# Altium integrated library FAN7688.IntLib: 19 symbols
Pins are listed as number, name and electrical type; pins without a type are passive.

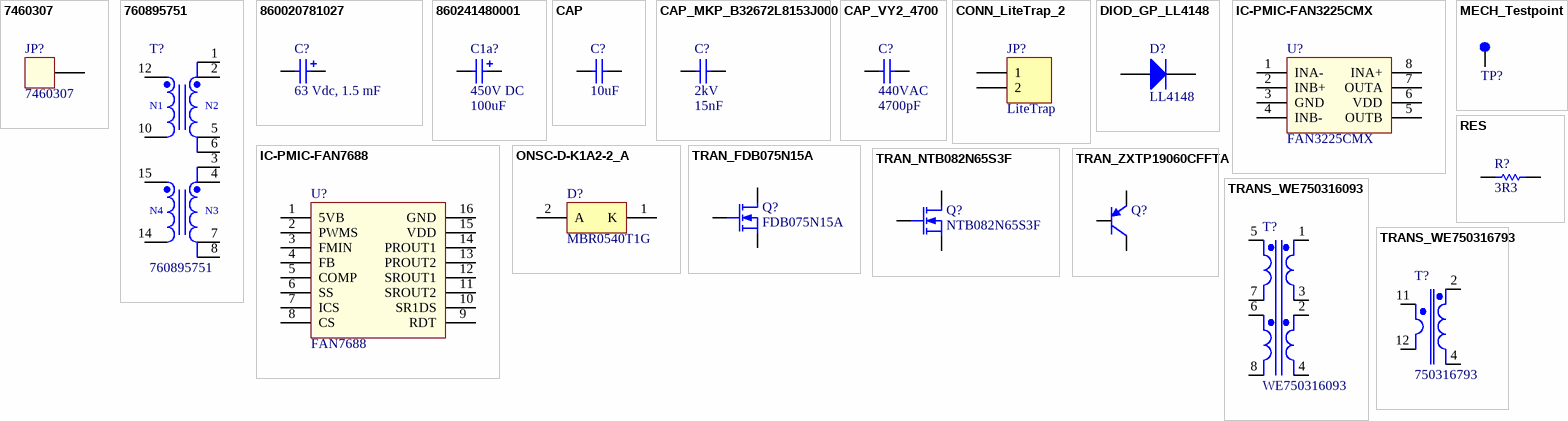
[diagram p0: symbols 7460307 to TRANS_WE750316793]

## 7460307
designator JP?
REDCUBE PRESS-FIT with internal thread, two rows WP-BUTR, M4 - 6 mm; Pin Number: 8; Rated Current: 160 A; Thread Length: 6 mm; ComponentLink1Description: Manufacturer; ComponentLink1URL: http://www.we-online.de; ComponentLink2Description: Datasheet; ComponentLink2URL: http://katalog.we-online.de/em/datasheet/7460307.pdf; Part Number: 7460307; Published Date: March  2017; Publisher: Wurth Elektronik; Thread: M4
footprint 7460307 (WP-BUTR Bushes with two Rows Pin-Plate, M4, blind thr 6mm)
pins: 1

## 760895751
designator T?
WE-LLCR Resonant Converter, size ETD44, 600uH, 27:6:6:2 , 250W; Input Voltage: 360-400 V DC; Inductance: 400uH; ComponentLink1Description: Manufacturer; ComponentLink1URL: http://www.we-online.de; ComponentLink2Description: Datasheet; ComponentLink2URL: http://katalog.we-online.de/pbs/datasheet/760895751.pdf; Part Number: 760895751; Published Date: July 2017; Publisher: Wurth Elektronik; Size: ETD44; Turns Ratio: 27:6:6:2; Output Power: 250W
footprint WE-LLCR_ETD44
pins: 1, 2, 3, 4, 5, 6, 7, 8, 10, 12, 14, 15
text: N1; N2; N4; N3

## 860020781027
designator C?, comment 63 Vdc, 1.5 mF
WCAP-ATG5 Aluminum Electrolytic Capacitors, 18x31.5mm, 63 Vdc, 1.5 mF; Part Number: 860020781027; Rated Voltage: 63 Vdc; Value: 1.5 mF; ComponentLink1Description: Manufacturer; ComponentLink1URL: http://www.we-online.de; ComponentLink2Description: Datasheet; ComponentLink2URL: http://katalog.we-online.com/pbs/datasheet/860020781027.pdf; Published Date: Sep. 2017; Publisher: Wurth Elektronik; Size: 18x31.5mm; Life Cycle: 2000h; Operating Temperature: -40 °C up to +105 °C
footprint WCAP-ATG5_18x31.5x7.5
pins: 1 P, 2 N

## 860241480001
designator C1a?  value 100uF  Rated Voltage: 450V DC  (hidden comment: 860241480001)
WCAP-AT1H Aluminum Electrolytic Capacitors, size Ф16x35.5mm, 450V DC, 100uF; ComponentLink1Description: Manufacturer; ComponentLink1URL: http://www.we-online.de; ComponentLink2Description: Datasheet; ComponentLink2URL: http://katalog.we-online.de/pbs/datasheet/860241480001.pdf; Part Number: 860241480001; Published Date: June 2017; Publisher: Wurth Elektronik; Size: Ф16x35.5mm; Life Cycle: 5000h; Operating Temperature: -25 °C up to +105 °C
footprint WCAP-AT1H_16x35.5x7.5
pins: 1 P, 2 N

## CAP
designator C?  value 10uF  (hidden comment: CAP)
Generic capacitor non polarised
footprint CAPC0402(1005)33_L (Chip Capacitor, Body 1.0x0.5mm, Height 0.33mm, IPC High Density)
footprint CAPC0402(1005)33_M (Chip Capacitor, Body 1.0x0.5mm, Height 0.33mm, IPC Low Density)
footprint CAPC0402(1005)33_N (Chip Capacitor, Body 1.0x0.5mm, Height 0.33mm, IPC Medium Density)
footprint CAPC0603(1608)55_L (Chip Capacitor, Body 1.6x0.8mm, Height 0.55mm, IPC High Density)
footprint CAPC0603(1608)55_N (Chip Capacitor, Body 1.6x0.8mm, Height 0.55mm, IPC Medium Density)
footprint CAPC0603(1608)55_M (Chip Capacitor, Body 1.6x0.8mm, Height 0.55mm, IPC Low Density)
footprint CAPC0805(2012)75_L (Chip Capacitor, Body 2.0x1.2mm, Height 0.75mm, IPC High Density)
footprint CAPC0805(2012)75_M (Chip Capacitor, Body 2.0x1.2mm, Height 0.75mm, IPC Low Density)
footprint CAPC0805(2012)75_N (Chip Capacitor, Body 2.0x1.2mm, Height 0.75mm, IPC Medium Density)
footprint CAPC1206(3216)75_L (Chip Capacitor, Body 3.2x1.6mm, Height 0.75mm, IPC High Density)
footprint CAPC1206(3216)75_M (Chip Capacitor, Body 3.2x1.6mm, Height 0.75mm, IPC Low Density)
footprint CAPC1206(3216)75_N (Chip Capacitor, Body 3.2x1.6mm, Height 0.75mm, IPC Medium Density)
footprint CAPC1210(3225)345_L (Chip Capacitor, Body 3.2x2.5mm, Height 3.45mm, IPC High Density)
footprint CAPC1210(3225)345_M (Chip Capacitor, Body 3.2x2.5mm, Height 3.45mm, IPC Low Density)
footprint CAPC1210(3225)345_N (Chip Capacitor, Body 3.2x2.5mm, Height 3.45mm, IPC Medium Density)
pins: 1, 2
1 alternate drawing of the same symbol

## CAP_MKP_B32672L8153J000
designator C?, comment value 15nF  Voltage: 2kV  (hidden comment: B32672L8153J000)
0.015µF Film Capacitor 700V 2000V (2kV) Polypropylene (PP), Metallized Radial; PackageReference: RM15; Farnell: 2469018; MPN: B32672L8153J000; DigiKey: 495-3234-ND
footprint CAP_RM15_W9L18 (CAP RM15 width 9, height 17.5, length 18)
pins: 1, 2

## CAP_VY2_4700
designator C?, comment value 4700pF  Voltage: 440VAC  (hidden comment: VY2472M49Y5US63V7)
4700pF ±20% 440VAC Ceramic Capacitor Y5U (E) Radial, Disc; PackageReference: THD; FARNELL: 1902233; MPN: VY2472M49Y5US63V7; DigiKey: BC2359-ND
footprint CAP_VY2472M49Y5US63V7 (X,Y CAP)
pins: 1, 2

## CONN_LiteTrap_2
designator JP?, comment LiteTrap
CONN SSL RCPT 2POS 4MM SOLDER; MPN: 104188-0210; ELFA: 43-808-61; Farnell: 2401572; DigiKey: WM10425CT-ND
footprint CONN_MiniLite (CONN SSL RCPT 2POS 4MM SOLDER)
pins: 1, 2

## DIOD_GP_LL4148
designator D?, comment LL4148
DIODE GEN PURP 100V 200MA SOD80; Code_JEDEC: SOD-80; FARNELL: 2101203; DigiKey: LL4148FSTR-ND; MPN: LL4148
footprint DIOD-SOD-80
pins: 1 A, 2 K

## IC-PMIC-FAN3225CMX
designator U?, comment FAN3225CMX
Low-Side Gate Driver IC Inverting, Non-Inverting 8-SOIC; MPN: FAN3225CMX
footprint SOIC8_L (SOIC, 8-Leads, Body 4.9x3.9mm, Pitch 1.27mm, IPC High Density)
footprint SOIC8_M (SOIC, 8-Leads, Body 4.9x3.9mm, Pitch 1.27mm, IPC Low Density)
footprint SOIC8_N (SOIC, 8-Leads, Body 4.9x3.9mm, Pitch 1.27mm, IPC Medium Density)
pins: 1 INA-, 2 INB+, 3 GND (power), 4 INB-, 5 OUTB, 6 VDD (power), 7 OUTA, 8 INA+

## IC-PMIC-FAN7688
designator U?, comment FAN7688
Power Supply Controller Secondary-Side Controller, Synchronous Rectifier 16-SOP; MPN: FAN7688SJX
footprint ONSC-SOEIAJ-16-966-01_L (SOIC, 16-Leads, Body 10.5x5.45mm, Pitch 1.27mm, IPC High Density)
footprint ONSC-SOEIAJ-16-966-01_M (SOIC, 16-Leads, Body 10.5x5.45mm, Pitch 1.27mm, IPC Low Density)
footprint ONSC-SOEIAJ-16-966-01_N (SOIC, 16-Leads, Body 10.5x5.45mm, Pitch 1.27mm, IPC Medium Density)
pins: 1 5VB (power) "5V REF", 2 PWMS "PWM mode entry level setting", 3 FMIN "Minimum frequency setting pin", 4 FB "Feedback", 5 COMP "Output of error amplifier", 6 SS "Soft start", 7 ICS "Current information integration pin for current mode control", 8 CS "Current sense", 9 RDT "Dead time", 10 SR1DS "SR1 drain to source voltage detection", 11 SROUT2 "SR MOSFET2", 12 SROUT1 "SR MOSFET1", 13 PROUT2 "GD2", 14 PROUT1 "GD1", 15 VDD (power) "IC supply voltage", 16 GND (power) "Ground"

## MECH_Testpoint
designator TP?  (value not drawn)
Testpoint
footprint MECH_TP_39_mil
footprint MECH_TP_0.5_mm
pins: 1 Pin1

## ONSC-D-K1A2-2_A
designator D?, comment MBR0540T1G
Schottky Power Rectifier, 2-Pin SOD-123, Pb-Free, Tape and Reel; Manufacturer: On Semiconductor; IFSM Max (A): 5.5; Configuration: Single; ComponentLink1URL: http://www.onsemi.com/; ComponentLink3Description: Package Specification; RoHS: TRUE; PackageVersion: Rev. G, 10/2009; DatasheetVersion: Rev. 7; ComponentLink3URL: http://www.onsemi.com/pub_link/Collateral/425-04.PDF; Packing: Tape and Reel; ComponentLink1Description: Manufacturer URL; PackageDescription: 2-Pin SOD, Body 1.6 x 2.69 mm; PartNumber: MBR0540T1G; ComponentLink2Description: Datasheet; ComponentLink2URL: http://www.onsemi.cn/pub_link/Collateral/MBR0540T1-D.PDF; PackageReference: SOD-123-2-425-04; Mounting Technology: Surface Mount
footprint ONSC-SOD-123-2-425-04_V (SOD, 2-Leads, Body 2.69x1.6mm)
pins: 1 K, 2 A

## RES
designator R?  value 3R3  (hidden comment: RES)
Generic resistor
footprint RESC0402(1005)_L (Chip Resistor, Body 1.0x0.5mm, IPC High Density)
footprint RESC0402(1005)_M (Chip Resistor, Body 1.0x0.5mm, IPC Low Density)
footprint RESC0402(1005)_N (Chip Resistor, Body 1.0x0.5mm, IPC Medium Density)
footprint RESC0603(1608)_L (Chip Resistor, Body 1.6x0.8mm, IPC High Density)
footprint RESC0603(1608)_M (Chip Resistor, Body 1.6x0.8mm, IPC Low Density)
footprint RESC0603(1608)_N (Chip Resistor, Body 1.6x0.8mm, IPC Medium Density)
footprint RESC0805(2012)_L (Chip Resistor, Body 2.0x1.3mm, IPC High Density)
footprint RESC0805(2012)_M (Chip Resistor, Body 2.0x1.3mm, IPC Low Density)
footprint RESC0805(2012)_N (Chip Resistor, Body 2.0x1.3mm, IPC Medium Density)
footprint RESC1206(3216)_L (Chip Resistor, Body 3.2x1.6mm, IPC High Density)
footprint RESC1206(3216)_M (Chip Resistor, Body 3.2x1.6mm, IPC Low Density)
footprint RESC1206(3216)_N (Chip Resistor, Body 3.2x1.6mm, IPC Medium Density)
footprint RESC1210(3225)_L (Chip Resistor, Body 3.2x2.5mm, IPC High Density)
footprint RESC1210(3225)_M (Chip Resistor, Body 3.2x2.5mm, IPC Low Density)
footprint RESC1210(3225)_N (Chip Resistor, Body 3.2x2.5mm, IPC Medium Density)
footprint RESC1812(4532)_L (Chip Resistor, Body 4.5x3.2mm, IPC High Density)
footprint RESC1812(4532)_M (Chip Resistor, Body 4.5x3.2mm, IPC Low Density)
footprint RESC1812(4532)_N (Chip Resistor, Body 4.5x3.2mm, IPC Medium Density)
footprint RESC2010(5025)_L (Chip Resistor, Body 5.0x2.5mm, IPC High Density)
footprint RESC2010(5025)_M (Chip Resistor, Body 5.0x2.5mm, IPC Low Density)
footprint RESC2010(5025)_N (Chip Resistor, Body 5.0x2.5mm, IPC Medium Density)
footprint RESC2512(6432)_L (Chip Resistor, Body 6.4x3.2mm, IPC High Density)
footprint RESC2512(6432)_M (Chip Resistor, Body 6.4x3.2mm, IPC Low Density)
footprint RESC2512(6432)_N (Chip Resistor, Body 6.4x3.2mm, IPC Medium Density)
pins: 1, 2

## TRAN_FDB075N15A
designator Q?, comment FDB075N15A
N-Channel 150V 110A (Tc) 333W (Tc) Surface Mount D2PAK (TO-263); MPN: FDB075N15A
footprint D2PAK_L (D2-PAK, 4-Leads, Body 9.2x10.2mm, Pitch 2.54mm, Lead Span 15.4mm, IPC High Density)
footprint D2PAK_M (D2-PAK, 4-Leads, Body 9.2x10.2mm, Pitch 2.54mm, Lead Span 15.4mm, IPC Low Density)
footprint D2PAK_N (D2-PAK, 4-Leads, Body 9.2x10.2mm, Pitch 2.54mm, Lead Span 15.4mm, IPC Medium Density)
pins: 1 G, 3 S, 4 D

## TRAN_NTB082N65S3F
designator Q?, comment NTB082N65S3F
N-Channel 650V 40A (Tc) 313W (Tc) Surface Mount D2PAK (TO-263); MPN: NTB082N65S3F
footprint D2PAK_L (D2-PAK, 4-Leads, Body 9.2x10.2mm, Pitch 2.54mm, Lead Span 15.4mm, IPC High Density)
footprint D2PAK_M (D2-PAK, 4-Leads, Body 9.2x10.2mm, Pitch 2.54mm, Lead Span 15.4mm, IPC Low Density)
footprint D2PAK_N (D2-PAK, 4-Leads, Body 9.2x10.2mm, Pitch 2.54mm, Lead Span 15.4mm, IPC Medium Density)
pins: 1 G, 3 S, 4 D

## TRAN_ZXTP19060CFFTA
designator Q?, comment ZXTP19060CFFTA  (value not drawn)
Bipolar (BJT) Transistor PNP 60V 4A 180MHz 1.5W Surface Mount SOT-23F; ComponentLink1Description: Manufacturer Link; ComponentLink1URL: http://www.fairchildsemi.com/; ComponentLink2Description: Datasheet; ComponentLink2URL: http://www.fairchildsemi.com/ds/2N%2F2N3906.pdf; MPN: ZXTP19060CFFTA
footprint DIOD-SOT23F-3_V (SOTFL, 3-Leads, Body 2.9x1.6mm, Pitch 0.95mm)
pins: 1 B, 2 E, 3 C

## TRANS_WE750316093
designator T?, comment WE750316093
MID-GDT Gate Drive Transformers; MPN: 750316093
footprint WE_750316093
pins: 1, 2, 3, 4, 5, 6, 7, 8

## TRANS_WE750316793
designator T?, comment 750316793
MID-SNS Current Sense Transformers; MPN: 750316793
footprint WE_750316793
pins: 2, 4, 11, 12